# Altium footprint library Relais.PcbLib: 17 footprints (part 2 of 2)
Each footprint in its own frame and in the unit in brackets; x right, y up, seen from the top. Pads: shape width x height; smd on the part's side, far side on the other; paste and mask are expansions set on the pad; w line width, h text height; cw(c..) or ccw(c..) is an arc to the next point about the centre after c.
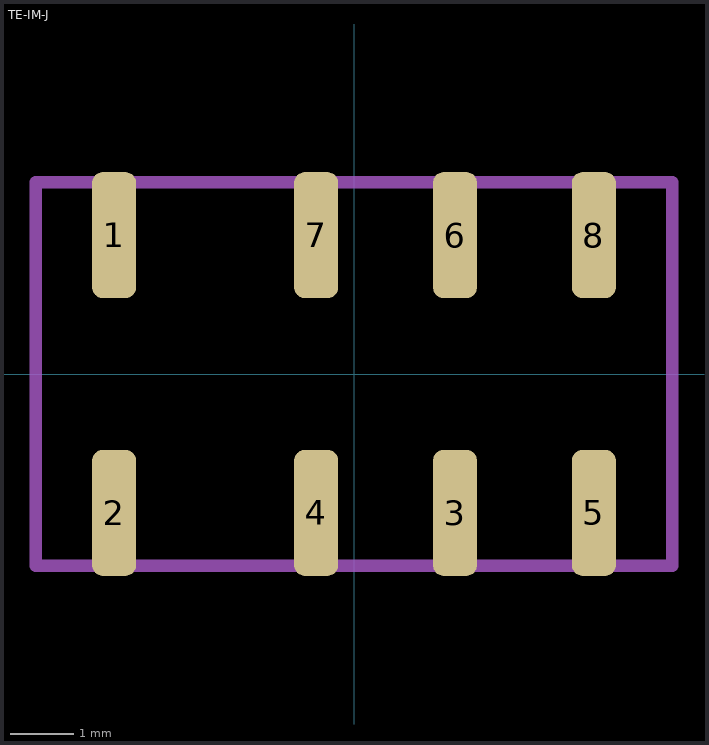
[diagram p1: the footprint, top view; thin cyan lines are the x and y axes]

## TE-IM-J [mm]
pads (8):
  rrect50% 0.7x2 smd: 1(-3.8,2.2) 2(-3.8,-2.2) 3(1.6,-2.2) 4(-0.6,-2.2) 5(3.8,-2.2) 6(1.6,2.2) 7(-0.6,2.2) 8(3.8,2.2)
Top Assembly:
  lines w0.2: -5.04,-3.04 -5.04,3.04 ; -5.04,-3.04 5.04,-3.04 ; -5.04,-3.04 -5.04,3.04 ; -5.04,-3.04 5.04,-3.04 ; -5.04,3.04 5.04,3.04 ; -5.04,3.04 5.04,3.04 ; 5.04,-3.04 5.04,3.04 ; 5.04,-3.04 5.04,3.04
3D body: height 5.75, standoff 1.05, extent -5.04,-3.04 5.04,3.04
3D body: height 1.05, standoff 0, extent 3.6,2.44 4,2.64
3D body: height 1.05, standoff 0, extent 1.4,2.44 1.8,2.64
3D body: height 1.05, standoff 0, extent -0.8,2.44 -0.4,2.64
3D body: height 1.05, standoff 0, extent -4,2.44 -3.6,2.64
3D body: height 0.2, standoff 0, extent -4,1.4 -3.6,2.64
3D body: height 1.05, standoff 0, extent -4,-2.64 -3.6,-2.44
3D body: height 1.05, standoff 0, extent -0.8,-2.64 -0.4,-2.44
3D body: height 1.05, standoff 0, extent 1.4,-2.64 1.8,-2.44
3D body: height 1.05, standoff 0, extent 3.6,-2.64 4,-2.44
3D body: height 1.05, standoff 0, extent -4.2,-2.2 4.2,2.2
3D body: height 0.2, standoff 0, extent -0.8,1.4 -0.4,2.64
3D body: height 0.2, standoff 0, extent 1.4,1.4 1.8,2.64
3D body: height 0.2, standoff 0, extent 3.6,1.4 4,2.64
3D body: height 0.2, standoff 0, extent -4,-2.64 -3.6,-1.4
3D body: height 0.2, standoff 0, extent -0.8,-2.64 -0.4,-1.4
3D body: height 0.2, standoff 0, extent 1.4,-2.64 1.8,-1.4
3D body: height 0.2, standoff 0, extent 3.6,-2.64 4,-1.4